# EAGLE library part MPX2102GP (library mpx2102gp)
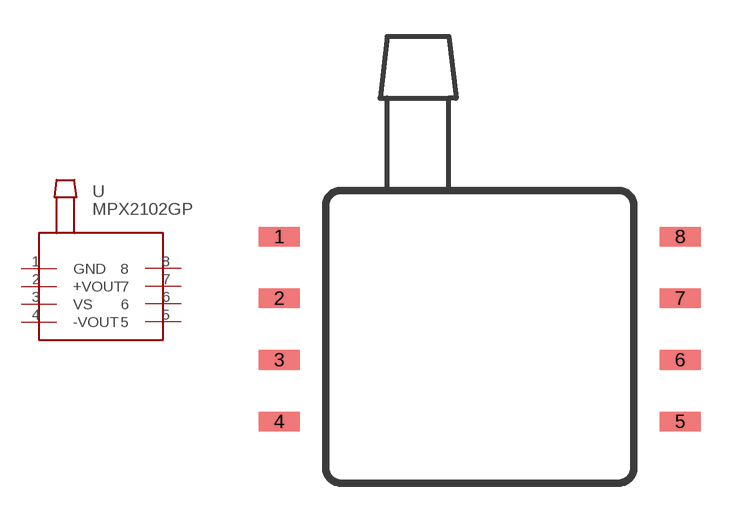
[diagram p0: symbol with the pads of MPX2102GP; footprint MPX2102GP]

Designator prefix -

## MPX2102GP  [MPX2102GP]
1  GND
2  +VOUT
3  VS
4  -VOUT
5  5
6  6
7  7
8  8

## Footprint MPX2102GP (pad centres in mm)
smd 1.676 x 0.813: 1 -2.54,0; 2 -2.54,-2.54; 3 -2.54,-5.08; 4 -2.54,-7.62; 5 13.97,-7.62; 6 13.97,-5.08; 7 13.97,-2.54; 8 13.97,0